# Altium footprint library Rnd IP Camera.PcbLib: 19 footprints (part 1 of 2)
Each footprint in its own frame and in the unit in brackets; x right, y up, seen from the top. Pads: shape width x height; smd on the part's side, far side on the other; paste and mask are expansions set on the pad; w line width, h text height; cw(c..) or ccw(c..) is an arc to the next point about the centre after c.
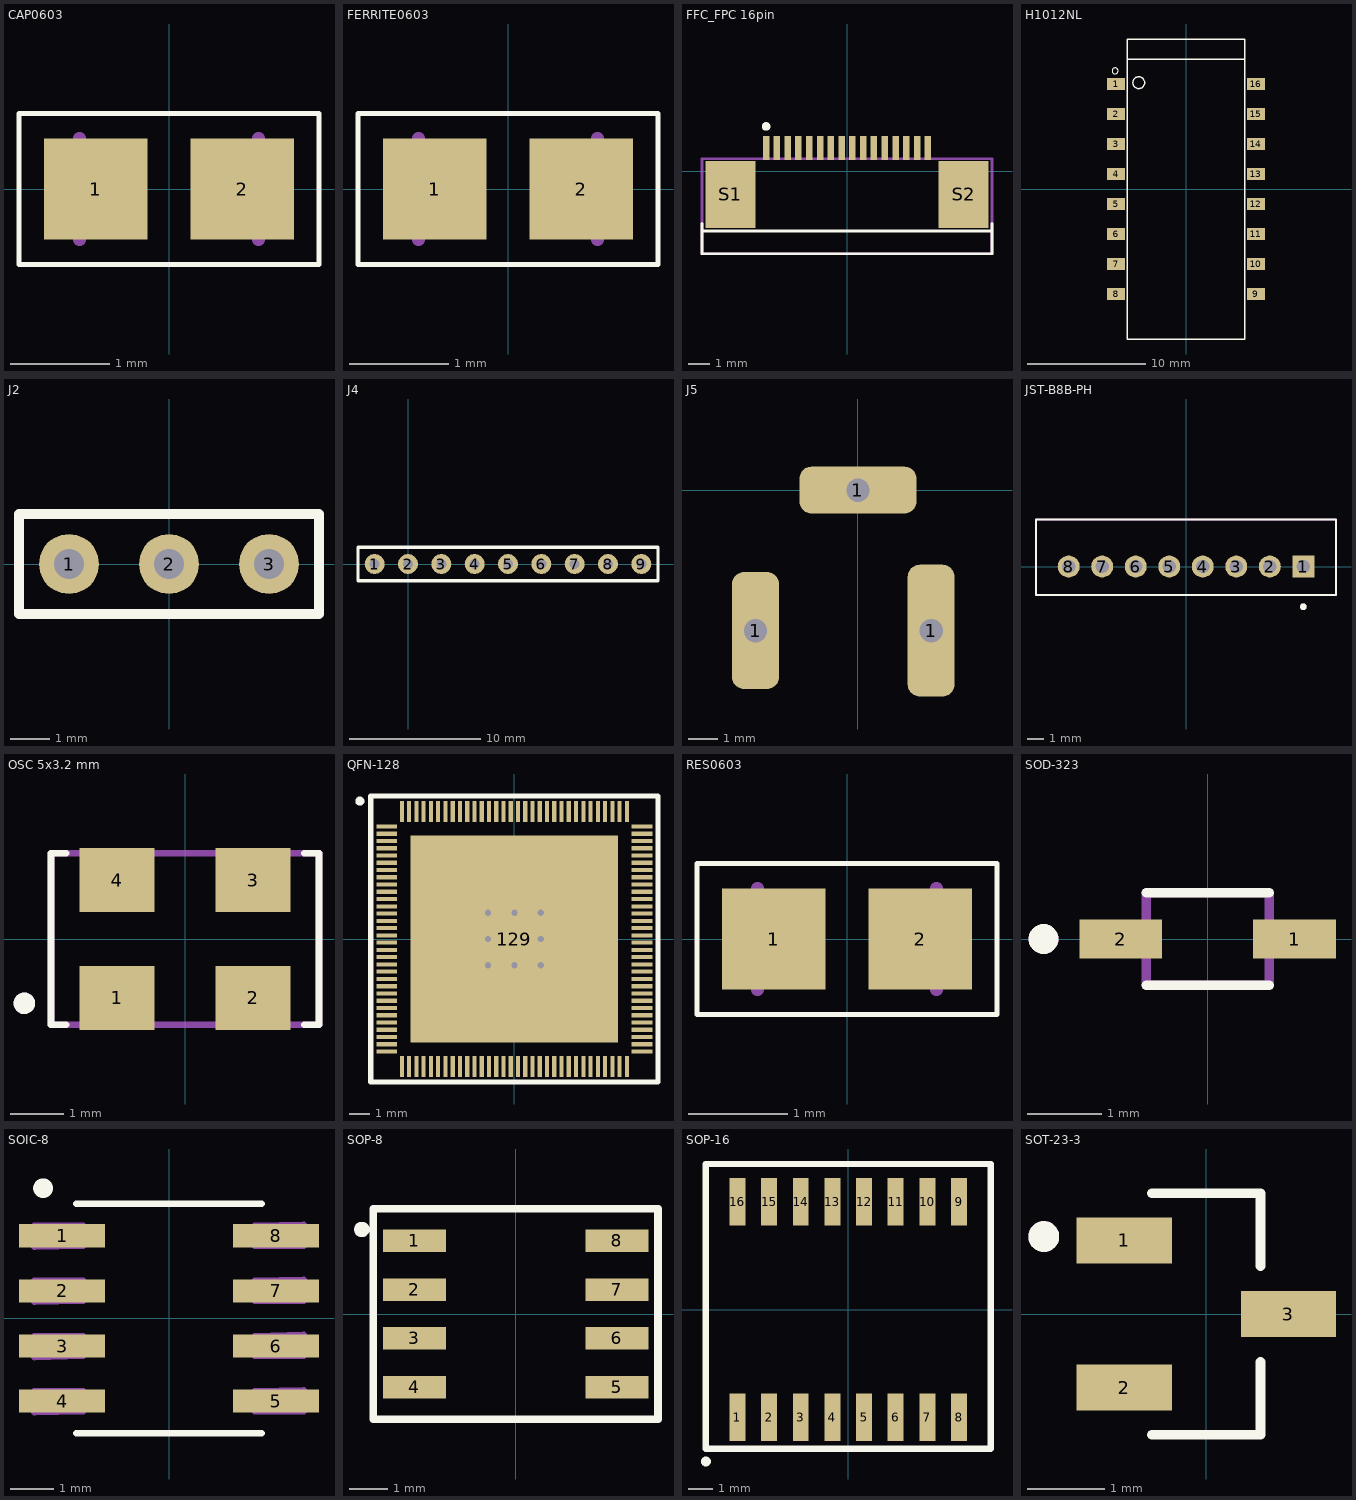
[diagram p0: the footprints below, top view; thin cyan lines are the x and y axes]

## CAP0603 [mm]
pads (2):
  rect 1.04x1.02 smd: 1(-0.735,0) 2(0.735,0)
Top Overlay:
  lines w0.05: -1.508,-0.761 -1.508,0.761 1.508,0.761 1.508,-0.761 -1.508,-0.761
Mechanical 13:
  lines w0.127: -0.9,-0.51 -0.9,0.51 ; 0.9,-0.51 0.9,0.51
3D body "capacitor_rnd_1500603b221k500.stp": height 0.8, standoff 0, extent -0.8,-0.375 0.8,0.425

## FERRITE0603 [mm]
pads (2):
  rect 1.04x1.02 smd: 1(-0.735,0) 2(0.735,0)
Top Overlay:
  lines w0.05: -1.508,-0.761 -1.508,0.761 1.508,0.761 1.508,-0.761 -1.508,-0.761
Mechanical 13:
  lines w0.127: -0.9,-0.51 -0.9,0.51 ; 0.9,-0.51 0.9,0.51
3D body "User Library-FB_1608-1.STEP": height 0.8, standoff 0, extent -0.8,-0.4 0.8,0.4

## FFC_FPC 16pin [mm]
pads (18):
  rect 0.3x1.1 smd: 1(-3.75,1.075) 2(-3.25,1.075) 3(-2.75,1.075) 4(-2.25,1.075) 5(-1.75,1.075) 6(-1.25,1.075) 7(-0.75,1.075) 8(-0.25,1.075) 9(0.25,1.075) 10(0.75,1.075) 11(1.25,1.075) 12(1.75,1.075) 13(2.25,1.075) 14(2.75,1.075) 15(3.25,1.075) 16(3.75,1.075)
  rect 2.3x3.1 smd: S1(-5.4,-1.075) S2(5.4,-1.075)
Top Overlay:
  circle w0.2: c-3.75,2.075 r0.1
  lines w0.127: -6.715,-2.425 -6.715,-3.825 6.715,-3.825 6.715,-2.425 ; -6.7,-2.775 6.7,-2.775
Mechanical 13:
  lines w0.127: -6.715,-3.825 -6.715,0.575 6.715,0.575 6.715,-3.825 -6.715,-3.825
3D body "FFC2B35-16-T--3DModel-STEP-56544.STEP": height 2, standoff 0, extent -6.2,-5.52 6.2,1.24

## H1012NL [mm]
pads (16):
  rect 1.52x1.02 smd: 1(-5.91,8.89) 2(-5.91,6.35) 3(-5.91,3.81) 4(-5.91,1.27) 5(-5.91,-1.27) 6(-5.91,-3.81) 7(-5.91,-6.35) 8(-5.91,-8.89) 9(5.91,-8.89) 10(5.91,-6.35) 11(5.91,-3.81) 12(5.91,-1.27) 13(5.91,1.27) 14(5.91,3.81) 15(5.91,6.35) 16(5.91,8.89)
Top Overlay:
  circle w0.127: c-4,9 r0.5
  circle w0: c-6,10 r0.254
  lines w0.127: -4.947,11.001 4.944,11.001 4.944,11.001 ; -4.955,-12.7 4.955,-12.7 4.955,12.7 -4.955,12.7 -4.955,-12.7
3D body "H1012NL_3D.STEP": height 6.31, standoff 0.22, extent -6.35,-12.725 6.386,12.725

## J2 [mil]
pads (3):
  round 60 hole 30: 1(-100,0) 2(0,0) 3(100,0)
Top Overlay:
  lines w10: -150,-50 -150,50 150,50 150,-50 -150,-50

## J4 [mil]
pads (9):
  round 60 hole 30: 1(-100,0) 2(0,0) 3(100,0) 4(200,0) 5(300,0) 6(400,0) 7(500,0) 8(600,0) 9(700,0)
Top Overlay:
  lines w10: -150,-50 750,-50 750,50 -150,50 -150,-50

## J5 [mm]
pads (3):
  rrect50% 1.6x4 hole 0.8 square: 1(-3.5,-4.8)
  rrect50% 4x1.6 hole 0.8 square: 1(0,0)
  rrect50% 1.6x4.5 hole 0.8 square: 1(2.5,-4.8)

## JST-B8B-PH [mm]
pads (8):
  rect 1.308x1.308 / inner round 1.308 / far side rect 1.308x1.308 hole 0.8: 1(7,0)
  round 1.308 hole 0.8: 2(5,0) 3(3,0) 4(1,0) 5(-1,0) 6(-3,0) 7(-5,0) 8(-7,0)
Top Overlay:
  circle w0.2: c7,-2.4 r0.1
  lines w0.127: -8.95,-1.7 8.95,-1.7 8.95,2.8 -8.95,2.8 -8.95,-1.7
Mechanical 13:
  circle w0.2: c7,-2.4 r0.1
  lines w0.127: -8.95,-1.7 -8.95,2.8 8.95,2.8 8.95,-1.7 -8.95,-1.7
3D body "step_temp.STEP": height 6, standoff -3.4, extent -8.98,-1.652 8.92,2.848

## OSC 5x3.2 mm [mm]
pads (4):
  rect 1.4x1.2 smd: 1(-1.27,-1.1) 2(1.27,-1.1) 3(1.27,1.1) 4(-1.27,1.1)
Top Overlay:
  circle w0.2: c-3,-1.2 r0.1
  lines w0.127: -2.224,-1.6 -2.5,-1.6 -2.5,1.6 -2.224,1.6 ; 2.224,-1.6 2.5,-1.6 2.5,1.6 2.224,1.6
Mechanical 13:
  circle w0.2: c-3,-1.2 r0.1
  lines w0.127: -2.5,-1.6 2.5,-1.6 2.5,1.6 -2.5,1.6 -2.5,-1.6
3D body "step_temp.STEP": height 1.2, standoff 0, extent -1.6,-1.25 1.6,1.25

## QFN-128 [mm]
pads (129):
  rect 1x0.2 smd mask+0.01: 1(-6.15,5.425) 2(-6.15,5.075) 3(-6.15,4.725) 4(-6.15,4.375) 5(-6.15,4.025) 6(-6.15,3.675) 7(-6.15,3.325) 8(-6.15,2.975) 9(-6.15,2.625) 10(-6.15,2.275) 11(-6.15,1.925) 12(-6.15,1.575) 13(-6.15,1.225) 14(-6.15,0.875) 15(-6.15,0.525) 16(-6.15,0.175) 17(-6.15,-0.175) 18(-6.15,-0.525) 19(-6.15,-0.875) 20(-6.15,-1.225) 21(-6.15,-1.575) 22(-6.15,-1.925) 23(-6.15,-2.275) 24(-6.15,-2.625) 25(-6.15,-2.975) 26(-6.15,-3.325) 27(-6.15,-3.675) 28(-6.15,-4.025) 29(-6.15,-4.375) 30(-6.15,-4.725) 31(-6.15,-5.075) 32(-6.15,-5.425) 65(6.15,-5.425) 66(6.15,-5.075) 67(6.15,-4.725) 68(6.15,-4.375) 69(6.15,-4.025) 70(6.15,-3.675) 71(6.15,-3.325) 72(6.15,-2.975) 73(6.15,-2.625) 74(6.15,-2.275) 75(6.15,-1.925) 76(6.15,-1.575) 77(6.15,-1.225) 78(6.15,-0.875) 79(6.15,-0.525) 80(6.15,-0.175) 81(6.15,0.175) 82(6.15,0.525) 83(6.15,0.875) 84(6.15,1.225) 85(6.15,1.575) 86(6.15,1.925) 87(6.15,2.275) 88(6.15,2.625) 89(6.15,2.975) 90(6.15,3.325) 91(6.15,3.675) 92(6.15,4.025) 93(6.15,4.375) 94(6.15,4.725) 95(6.15,5.075) 96(6.15,5.425)
  rect 0.2x1 smd mask+0.01: 33(-5.425,-6.15) 34(-5.075,-6.15) 35(-4.725,-6.15) 36(-4.375,-6.15) 37(-4.025,-6.15) 38(-3.675,-6.15) 39(-3.325,-6.15) 40(-2.975,-6.15) 41(-2.625,-6.15) 42(-2.275,-6.15) 43(-1.925,-6.15) 44(-1.575,-6.15) 45(-1.225,-6.15) 46(-0.875,-6.15) 47(-0.525,-6.15) 48(-0.175,-6.15) 49(0.175,-6.15) 50(0.525,-6.15) 51(0.875,-6.15) 52(1.225,-6.15) 53(1.575,-6.15) 54(1.925,-6.15) 55(2.275,-6.15) 56(2.625,-6.15) 57(2.975,-6.15) 58(3.325,-6.15) 59(3.675,-6.15) 60(4.025,-6.15) 61(4.375,-6.15) 62(4.725,-6.15) 63(5.075,-6.15) 64(5.425,-6.15) 97(5.425,6.15) 98(5.075,6.15) 99(4.725,6.15) 100(4.375,6.15) 101(4.025,6.15) 102(3.675,6.15) 103(3.325,6.15) 104(2.975,6.15) 105(2.625,6.15) 106(2.275,6.15) 107(1.925,6.15) 108(1.575,6.15) 109(1.225,6.15) 110(0.875,6.15) 111(0.525,6.15) 112(0.175,6.15) 113(-0.175,6.15) 114(-0.525,6.15) 115(-0.875,6.15) 116(-1.225,6.15) 117(-1.575,6.15) 118(-1.925,6.15) 119(-2.275,6.15) 120(-2.625,6.15) 121(-2.975,6.15) 122(-3.325,6.15) 123(-3.675,6.15) 124(-4.025,6.15) 125(-4.375,6.15) 126(-4.725,6.15) 127(-5.075,6.15) 128(-5.425,6.15)
  rect 10x10 smd: 129(0,0)
via 0,1.27 diameter 0.7 hole 0.3
via -1.27,0 diameter 0.7 hole 0.3
via 0,-1.27 diameter 0.7 hole 0.3
via 1.27,-1.27 diameter 0.7 hole 0.3
via -1.27,-1.27 diameter 0.7 hole 0.3
via -1.27,1.27 diameter 0.7 hole 0.3
via 1.27,0 diameter 0.7 hole 0.3
via 1.27,1.27 diameter 0.7 hole 0.3
Top Overlay:
  circle w0.254: c-7.45,6.65 r0.09
  lines w0.254: -6.925,-6.9 6.925,-6.9 6.925,6.9 -6.925,6.9 -6.925,-6.9

## RES0603 [mm]
pads (2):
  rect 1.04x1.02 smd: 1(-0.735,0) 2(0.735,0)
Top Overlay:
  lines w0.05: -1.508,-0.761 1.508,-0.761 1.508,0.761 -1.508,0.761 -1.508,-0.761
Mechanical 13:
  lines w0.127: -0.9,-0.51 -0.9,0.51 ; 0.9,-0.51 0.9,0.51
3D body "User Library-R SMD 0603.STEP": height 0.46, standoff 0.01, extent -0.799,-0.422 0.841,0.428

## SOD-323 [mm]
pads (2):
  rect 1.11x0.52 smd: 1(1.165,0) 2(-1.165,0)
Top Overlay:
  circle w0.2: c-2.2,0 r0.1
  lines w0.127: -0.823,-0.62 0.823,-0.62 ; -0.823,0.62 0.823,0.62
Mechanical 13:
  circle w0.2: c-2.2,0 r0.1
  lines w0.127: -0.823,-0.62 0.823,-0.62 0.823,0.62 -0.823,0.62 -0.823,-0.62
3D body "ZMV829BTA.STEP": height 1.2, standoff 0, extent -1.301,-0.65 1.199,0.65

## SOIC-8 [mil]
pads (8):
  rect 78x21 smd: 1(-97,75) 2(-97,25) 3(-97,-25) 4(-97,-75) 5(97,-75) 6(97,-25) 7(97,25) 8(97,75)
Top Overlay:
  circle w10: c-114.17,118.11 r3.94
  lines w6: -84,-104 84,-104 ; -84,104 84,104
Mechanical 13:
  lines w6: -122,-85 -122,-66 -78,-66 -78,-84 -122,-85 ; -122,-35 -122,-16 -78,-16 -78,-34 -122,-35 ; -122,15 -122,34 -78,34 -78,16 -122,15 ; -122,65 -122,84 -78,84 -78,66 -122,65 ; 78,-84 78,-66 122,-65 122,-84 78,-84 ; 78,-34 78,-16 122,-15 122,-34 78,-34 ; 78,16 78,34 122,35 122,16 78,16 ; 78,66 78,84 122,85 122,66 78,66
3D body "step_temp.STEP": height 69, standoff 0, extent -118,-96.5 118,96.5

## SOP-8 [mm]
pads (8):
  rect 1.64x0.59 smd: 1(-2.635,1.905) 2(-2.635,0.635) 3(-2.635,-0.635) 4(-2.635,-1.905) 5(2.635,-1.905) 6(2.635,-0.635) 7(2.635,0.635) 8(2.635,1.905)
Top Overlay:
  circle w0.2: c-4,2.2 r0.1
  lines w0.2: -3.705,-2.74 -3.705,2.74 3.705,2.74 3.705,-2.74 -3.705,-2.74
Mechanical 13:
  circle w0.2: c-4,2.2 r0.1
3D body "TSIC 306 SOP-8--3DModel-STEP-510211.STEP": height 1.73, standoff 0, extent -2.997,-2.464 2.997,2.464

## SOP-16 [mm]
pads (16):
  rect 0.64x1.905 smd: 1(-4.445,-4.318) 2(-3.175,-4.318) 3(-1.905,-4.318) 4(-0.635,-4.318) 5(0.635,-4.318) 6(1.905,-4.318) 7(3.175,-4.318) 8(4.445,-4.318) 9(4.445,4.318) 10(3.175,4.318) 11(1.905,4.318) 12(0.635,4.318) 13(-0.635,4.318) 14(-1.905,4.318) 15(-3.175,4.318) 16(-4.445,4.318)
Top Overlay:
  circle w0.2: c-5.715,-6.096 r0.1
  lines w0.254: -5.715,-5.588 -5.715,5.842 5.715,5.842 5.715,-5.588 -5.715,-5.588
3D body "User Library-SOP16_208mil (5_3mm).STEP": height 2, standoff 0, extent -5.1,-3.96 5.1,3.96

## SOT-23-3 [mm]
pads (3):
  rect 1.23x0.59 smd: 1(-1.06,0.95) 2(-1.06,-0.95) 3(1.06,0)
Top Overlay:
  circle w0.2: c-2.1,1 r0.1
  lines w0.127: -0.7,-1.56 0.7,-1.56 0.7,-0.62 ; -0.7,1.56 0.7,1.56 0.7,0.62
Mechanical 13:
  circle w0.2: c-2.1,1 r0.1
3D body "step_temp.STEP": height 1.12, standoff 0, extent -1.175,-1.46 1.175,1.46